# Altium schematic symbol library IC_AD724.SchLib: 1 symbol
Pins are listed as number, name and electrical type; pins without a type are passive.

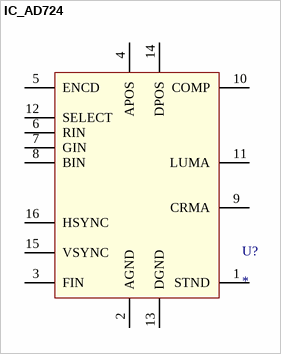
[diagram p0: symbol IC_AD724]

## IC_AD724
designator U?
pins: 1 STND, 2 AGND, 3 FIN, 4 APOS, 5 ENCD, 6 RIN, 7 GIN, 8 BIN, 9 CRMA, 10 COMP, 11 LUMA, 12 SELECT, 13 DGND, 14 DPOS, 15 VSYNC, 16 HSYNC